# EAGLE library part MSGEQ7 (library chips)
A CMOS spectrum analyzer
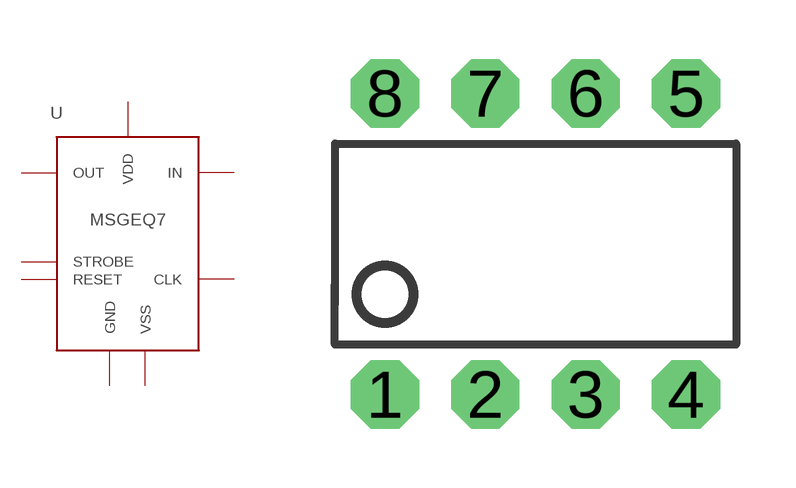
[diagram p58: symbol with the pads of DIP-8; footprint DIP-8]

Designator prefix U

## MSGEQ7 (DIGIKEY: 1568-1335-ND)  [DIP-8]
1  VDD
2  VSS
3  OUT
4  STROBE
5  IN
6  GND
7  RESET
8  CLK

## Footprint DIP-8 (pad centres in mm)
drill 0.813 pad 1.727 octagon: 1 -3.81,-3.81; 2 -1.27,-3.81; 3 1.27,-3.81; 4 3.81,-3.81; 5 3.81,3.81; 6 1.27,3.81; 7 -1.27,3.81; 8 -3.81,3.81